# EAGLE library part LP5562 (library led_headband)
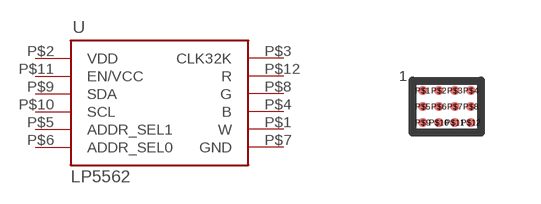
[diagram p0: symbol with the pads of YQE_12-PIN_DSBGA; footprint YQE_12-PIN_DSBGA]

Designator prefix -

## LP5562LP5562  [YQE_12-PIN_DSBGA]
P$1  W  out
P$2  VDD  pwr
P$3  CLK32K  in
P$4  B  out
P$5  ADDR_SEL1  in
P$6  ADDR_SEL0  in
P$7  GND  pwr
P$8  G  out
P$9  SDA
P$10  SCL
P$11  EN/VCC  in
P$12  R  out

## Footprint YQE_12-PIN_DSBGA (pad centres in mm)
smd 0.225 x 0.225: P$1 -0.6,0.4; P$2 -0.2,0.4; P$3 0.2,0.4; P$4 0.6,0.4; P$5 -0.6,0; P$6 -0.2,0; P$7 0.2,0; P$8 0.6,0; P$9 -0.6,-0.4; P$10 -0.2,-0.4; P$11 0.2,-0.4; P$12 0.6,-0.4